# Altium footprint library microUSB.PcbLib: 2 footprints
Each footprint in its own frame and in the unit in brackets; x right, y up, seen from the top. Pads: shape width x height; smd on the part's side, far side on the other; paste and mask are expansions set on the pad; w line width, h text height; cw(c..) or ccw(c..) is an arc to the next point about the centre after c.
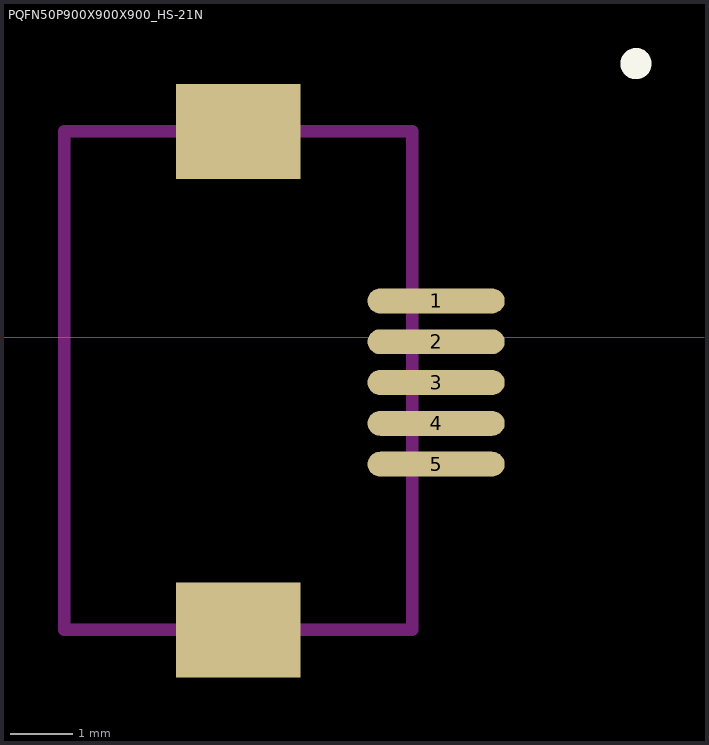
[diagram p0: the footprints below, top view; thin cyan lines are the x and y axes]

## PQFN50P900X900X900_HS-17N [mm] "PQFN, 16-Leads, Body 9.00x9.00mm, Pitch 2.54mm/0.50mm, Thermal Pad 4.00x2.20mm, IPC Medium Density"
height 9

## PQFN50P900X900X900_HS-21N [mm] "PQFN, 20-Leads, Body 9.00x9.00mm, Pitch 2.54mm/0.50mm, Thermal Pad 4.00x2.20mm, IPC Medium Density"
height 9
pads (7):
  oval 2.2x0.4 smd: 1(7.112,0.58) 2(7.112,-0.075) 3(7.112,-0.73) 4(7.112,-1.385) 5(7.112,-2.04)
  rect 2x1.524 smd: ""(3.937,-4.699) ""(3.937,3.302)
Top Overlay:
  circle w0.25: c10.319,4.388 r0.125
Keep-Out Layer:
  lines w0.2: 1.143,-4.699 6.731,-4.699 6.731,3.302 1.143,3.302 1.143,-4.699
3D body: height 2.73, standoff -0.55, extent 1.151,-4.748 6.731,3.302